# Altium schematic symbol library SCH - CONNECTORS - D_SUB9.SCHLIB: 1 symbol
Pins are listed as number, name and electrical type; pins without a type are passive.

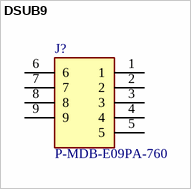
[diagram p0: symbol DSUB9]

## DSUB9
designator J?, comment P-MDB-E09PA-760
Connector
pins: 1, 2, 3, 4, 5, 6, 7, 8, 9